# Altium footprint library BrewBit.PcbLib: 85 footprints (part 2 of 6)
Each footprint in its own frame and in the unit in brackets; x right, y up, seen from the top. Pads: shape width x height; smd on the part's side, far side on the other; paste and mask are expansions set on the pad; w line width, h text height; cw(c..) or ccw(c..) is an arc to the next point about the centre after c.
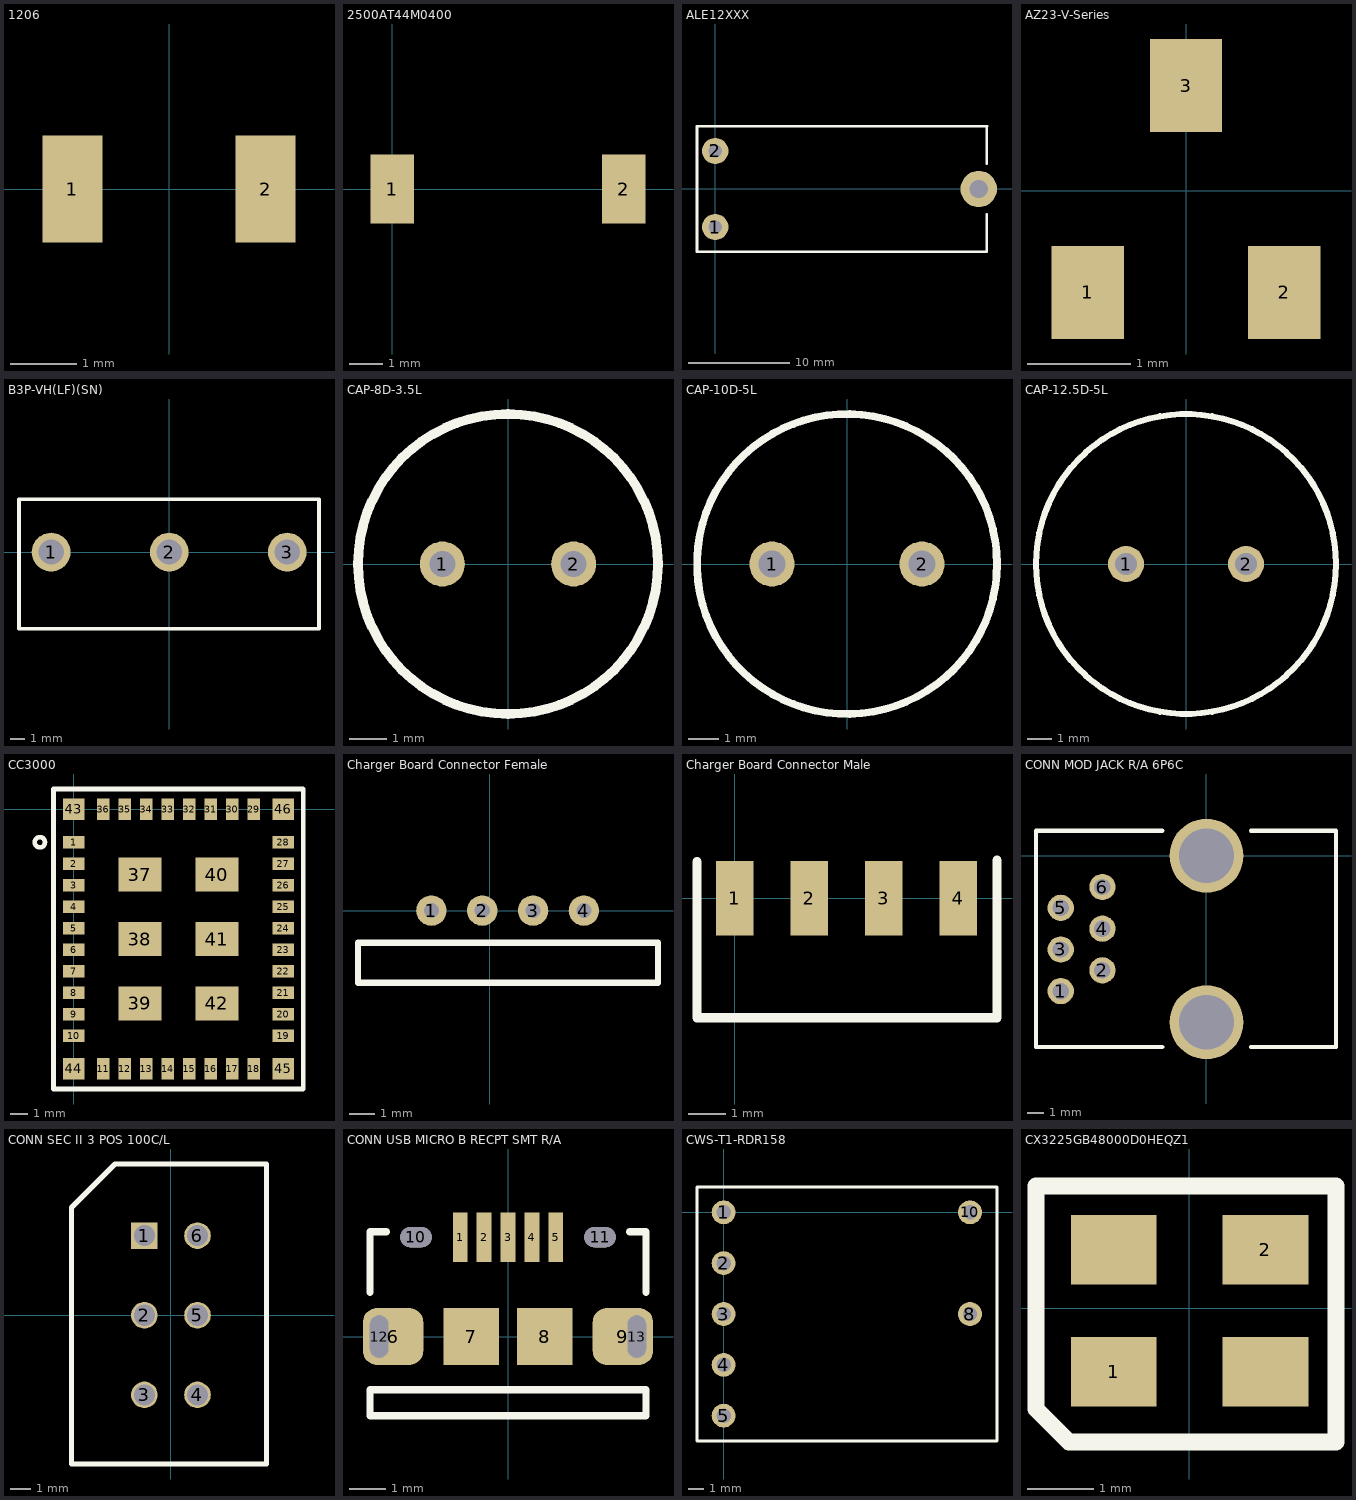
[diagram p1: the footprints below, top view; thin cyan lines are the x and y axes]

## 1206 [mm] "SMT Device"
pads (2):
  rect 0.9x1.6 smd: 1(-1.45,0) 2(1.45,0)

## 2500AT44M0400 [mm] "2.4 GHz Chip Antenna"
pads (2):
  rect 1.3x2.05 smd: 1(0,0) 2(6.9,0)

## ALE12XXX [mm] "Power Relay"
height 33.4
pads (3):
  round 2.6 hole 1.3: 1(0,-3.75) 2(0,3.75)
  round 3.6 hole 1.8: ""(26,0)
Top Overlay:
  lines w0.254: 26.8,-2.5 26.8,-6.2 -1.8,-6.2 -1.8,6.2 26.8,6.2 ; 26.8,2.5 26.8,6.2 ; 26.825,6.2 26.8,6.2

## AZ23-V-Series [mm] "Small Signal Zener Diodes, Dual"
height 1.15
pads (3):
  rect 0.7x0.9 smd: 1(-0.95,-0.984) 2(0.95,-0.984) 3(0,1.016)

## B3P-VH(LF)(SN) [mm] "CONN HEADER VH TOP 3POS 3.96MM"
pads (3):
  round 2.6 hole 1.7: 1(-7.92,0) 2(0,0) 3(7.92,0)
Top Overlay:
  lines w0.254: -10.075,-5.15 -10.075,3.55 10.05,3.55 10.05,-5.15 -10.075,-5.15

## CAP-8D-3.5L [mm] "Electrolytic 8mm Diameter 3.5mm Lead Spacing"
height 25
pads (2):
  round 1.2 hole 0.7: 1(-1.75,0) 2(1.75,0)
Top Overlay:
  circle w0.254: c0,0 r4

## CAP-10D-5L [mm] "Electrolytic 10mm Diameter 5mm Lead Spacing"
height 15
pads (2):
  round 1.5 hole 0.9: 1(-2.5,0) 2(2.5,0)
Top Overlay:
  circle w0.254: c0,0 r5

## CAP-12.5D-5L [mm] "Electrolytic 12.5mm Diameter 5mm Lead Spacing"
height 25
pads (2):
  round 1.5 hole 0.9: 1(-2.5,0) 2(2.5,0)
Top Overlay:
  circle w0.254: c0,0 r6.25

## CC3000 [mm] "CC3000 WLAN Module"
height 2
pads (46):
  rect 1.2x0.7 smd: 1(0,-1.85) 2(0,-3.05) 3(0,-4.25) 4(0,-5.45) 5(0,-6.65) 6(0,-7.85) 7(0,-9.05) 8(0,-10.25) 9(0,-11.45) 10(0,-12.65) 19(11.7,-12.65) 20(11.7,-11.45) 21(11.7,-10.25) 22(11.7,-9.05) 23(11.7,-7.85) 24(11.7,-6.65) 25(11.7,-5.45) 26(11.7,-4.25) 27(11.7,-3.05) 28(11.7,-1.85)
  rect 0.7x1.2 smd: 11(1.65,-14.5) 12(2.85,-14.5) 13(4.05,-14.5) 14(5.25,-14.5) 15(6.45,-14.5) 16(7.65,-14.5) 17(8.85,-14.5) 18(10.05,-14.5) 29(10.05,0) 30(8.85,0) 31(7.65,0) 32(6.45,0) 33(5.25,0) 34(4.05,0) 35(2.85,0) 36(1.65,0)
  rect 2.4x1.9 smd: 37(3.7,-3.65) 38(3.7,-7.25) 39(3.7,-10.85) 40(8,-3.65) 41(8,-7.25) 42(8,-10.85)
  rect 1.2x1.2 smd: 43(0,0) 44(0,-14.5) 45(11.7,-14.5) 46(11.7,0)
Top Overlay:
  circle w0.254: c-1.888,-1.85 r0.288
  lines w0.254: -1.125,-15.625 -1.125,1.125 12.825,1.125 12.825,-15.625 -1.125,-15.625

## Charger Board Connector Female [mm]
pads (4):
  round 1.2 hole 0.6: 1(-2.304,0) 2(-0.304,0) 3(1.696,0) 4(3.696,0)
Top Overlay:
  lines w0.254: -5.192,-2.84 6.608,-2.84 ; -5.193,-2.839 -5.193,-1.264 ; -5.191,-1.263 6.609,-1.263 ; 6.61,-2.838 6.61,-1.263

## Charger Board Connector Male [mm]
pads (4):
  rect 1x2 smd: 1(0,0) 2(2,0) 3(4,0) 4(6,0)
Top Overlay:
  lines w0.254: -1.009,0.982 -1.009,-3.2 7.036,-3.2 7.036,1.012

## CONN MOD JACK R/A 6P6C [mm] "RJ11 Jack"
pads (8):
  round 1.6 hole 1: 1(-8.89,-8.26) 2(-6.35,-6.99) 3(-8.89,-5.72) 4(-6.35,-4.45) 5(-8.89,-3.18) 6(-6.35,-1.91)
  round 4.5 hole 3.33: ""(0,-10.16) ""(0,0)
Top Overlay:
  lines w0.254: -2.7,-11.675 -10.4,-11.675 -10.4,1.525 -2.7,1.525 ; 2.725,-11.675 7.9,-11.675 7.9,1.525 2.725,1.525

## CONN SEC II 3 POS 100C/L [mil]
pads (6):
  rect 50x50 hole 40: 1(-50,150)
  round 50 hole 40: 2(-50,0) 3(-50,-150) 4(50,-150) 5(50,0) 6(50,150)
Top Overlay:
  lines w10: -187.4,-280.12 180.12,-280.12 180.12,284.84 -105.51,284.84 -187.4,202.95 -187.4,-280.12

## CONN USB MICRO B RECPT SMT R/A [mm] "CONN USB MICRO B RECPT SMT R/A"
pads (13):
  rect 0.4x1.35 smd: 1(-1.3,2.7) 2(-0.65,2.7) 3(0,2.7) 4(0.65,2.7) 5(1.3,2.7)
  rrect50% 1.645x1.55 smd: 6(-3.123,0) 9(3.123,0)
  rect 1.5x1.55 smd: 7(-1,0) 8(1,0)
  oval 0.85x0.55 hole 0.55 slot 0.85 at 0 deg mask+0.2: 10(-2.5,2.7) 11(2.5,2.7)
  oval 0.5x1.15 hole 0.5 slot 1.15 at 90 deg paste+0 mask+0: 12(-3.5,0) 13(3.5,0)
Top Overlay:
  lines w0.2: -3.75,1.2 -3.75,2.85 -3.3,2.85 ; 3.3,2.85 3.75,2.85 3.75,1.2 ; -3.75,-2.15 3.75,-2.15 3.75,-1.45 -3.75,-1.45 -3.75,-2.15

## CWS-T1-RDR158 [mm]
pads (7):
  round 1.5 hole 0.9: 1(0,0) 2(0,-3.2) 3(0,-6.4) 4(0,-9.6) 5(0,-12.8) 8(15.5,-6.4) 10(15.5,0)
Top Overlay:
  lines w0.2: -1.675,-14.4 17.2,-14.4 17.2,1.6 -1.675,1.6 -1.675,-14.4

## CX3225GB48000D0HEQZ1 [mm] "48MHz Crystal"
pads (4):
  rect 1.3x1.05 smd: 1(-1.143,-0.965) 2(1.157,0.885) ""(-1.143,0.885) ""(1.157,-0.965)
Top Overlay:
  lines w0.254: -2.323,-1.53 -2.323,1.854 2.227,1.854 2.227,-2.03 -1.823,-2.03 -2.323,-1.53